# EAGLE library part CONN_USB (library OneDollarBoard.com.1.004.r1)
IPN: 11 LCSC: C2765186
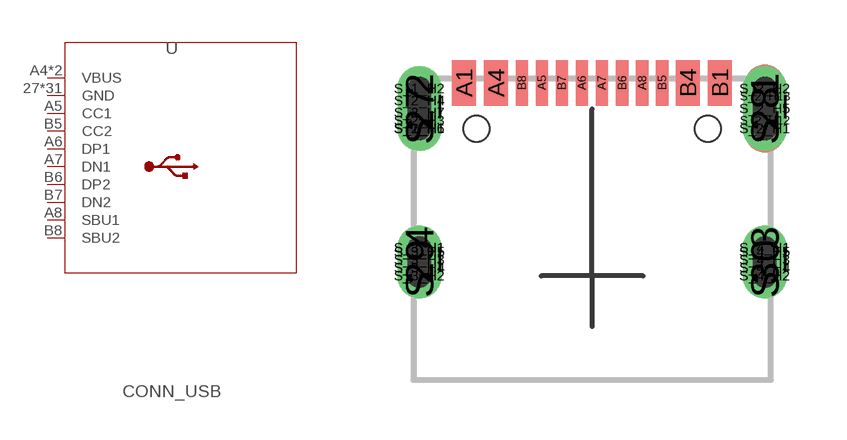
[diagram p0: symbol with the pads of CONN_TYPE-C-16P; footprint CONN_TYPE-C-16P]

Designator prefix -

## CONN_USB (CATEGORY: Connector; DATASHEET: https://www.lcsc.com/datasheet/C2765186.pdf; IPN: 11; LCSC_PART: C2765186; MANUFACTURER: SHOU HAN; MFR_PART: TYPE-C_16PIN_2MD(073); ODB_REV: 1.004; PACKAGE: SMD; VALUE: USB-C 16Pin)  [CONN_TYPE-C-16P]
27  GND  pwr
28  GND  pwr
29  GND  pwr
30  GND  pwr
A1  GND  pwr
A4  VBUS  pwr
A5  CC1
A6  DP1
A7  DN1
A8  SBU1
B1  GND  pwr
B4  VBUS  pwr
B5  CC2
B6  DP2
B7  DN2
B8  SBU2
S_1  GND  pwr
S_1_H1  GND  pwr
S_1_H2  GND  pwr
S_2  GND  pwr
S_2_H1  GND  pwr
S_2_H2  GND  pwr
S_2_H3  GND  pwr
S_2_H4  GND  pwr
S_2_H5  GND  pwr
S_2_H6  GND  pwr
S_2_H7  GND  pwr
S_2_H12  GND  pwr
S_2_H13  GND  pwr
S_3  GND  pwr
S_3_H1  GND  pwr
S_3_H2  GND  pwr
S_3_H3  GND  pwr
S_3_H4  GND  pwr
S_3_H5  GND  pwr
S_4  GND  pwr
S_4_H1  GND  pwr
S_4_H2  GND  pwr
S_4_H3  GND  pwr
S_4_H4  GND  pwr
S_4_H5  GND  pwr

## Footprint CONN_TYPE-C-16P (pad centres in mm)
smd 1.016 x 2.1: 27 -4.32,4.18; 28 4.32,4.18; S_2 -4.32,4.18
smd 1.016 x 1.8: 29 -4.32,0.35; 30 4.32,0.35; S_3 4.32,0.35; S_4 -4.32,0.35
smd 0.6 x 1.14: A1 -3.2,4.826; A4 -2.4,4.826; B1 3.2,4.826; B4 2.4,4.826
smd 0.3 x 1.14: A5 -1.25,4.826; A6 -0.25,4.826; A7 0.25,4.826; B7 -0.75,4.826; B8 -1.75,4.826
smd 0.305 x 1.14: A8 1.25,4.826; B5 1.75,4.826; B6 0.75,4.826
smd 1.016 x 2.2: S_1 4.32,4.18
drill 0.6 pad 0.6: S_1_H1 -4.32,3.686; S_1_H2 -4.32,4.68; S_2_H1 4.32,3.68; S_2_H2 4.32,4.68; S_2_H3 -4.32,3.88; S_2_H4 -4.32,4.38; S_2_H5 4.32,4.18; S_2_H6 -4.32,3.68; S_2_H7 -4.32,4.08; S_2_H12 4.32,3.88; S_2_H13 4.32,4.48; S_3_H1 -4.32,0.7; S_3_H2 -4.32,0; S_3_H3 -4.32,0.4; S_3_H4 -4.32,0.2; S_3_H5 -4.32,0.6; S_4_H1 4.32,0.7; S_4_H2 4.32,0; S_4_H3 4.32,0.4; S_4_H4 4.32,0.2; S_4_H5 4.32,0.6
hole 0.65 at -2.89,3.68
hole 0.65 at 2.89,3.68